# EAGLE library part STTS751 (library megatemp)
ST STTS751 I2C Temperature Sensor
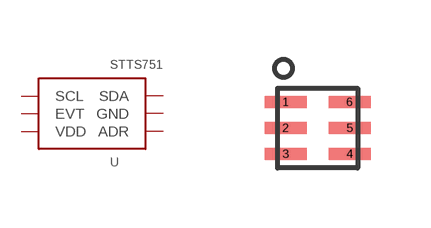
[diagram p0: symbol with the pads of ST_UDFN-6L_2X2; footprint ST_UDFN-6L_2X2]

Designator prefix U

## STTS751  [ST_UDFN-6L_2X2]
1  SCL
2  EVT
3  VDD
4  ADR
5  GND
6  SDA

## Footprint ST_UDFN-6L_2X2 (pad centres in mm)
smd 1.05 x 0.3: 1 -0.8,0.65; 2 -0.8,0; 3 -0.8,-0.65; 4 0.8,-0.65; 5 0.8,0; 6 0.8,0.65